# Altium integrated library DCMT_DRIVER_40V06A.IntLib: 25 symbols
Pins are listed as number, name and electrical type; pins without a type are passive.

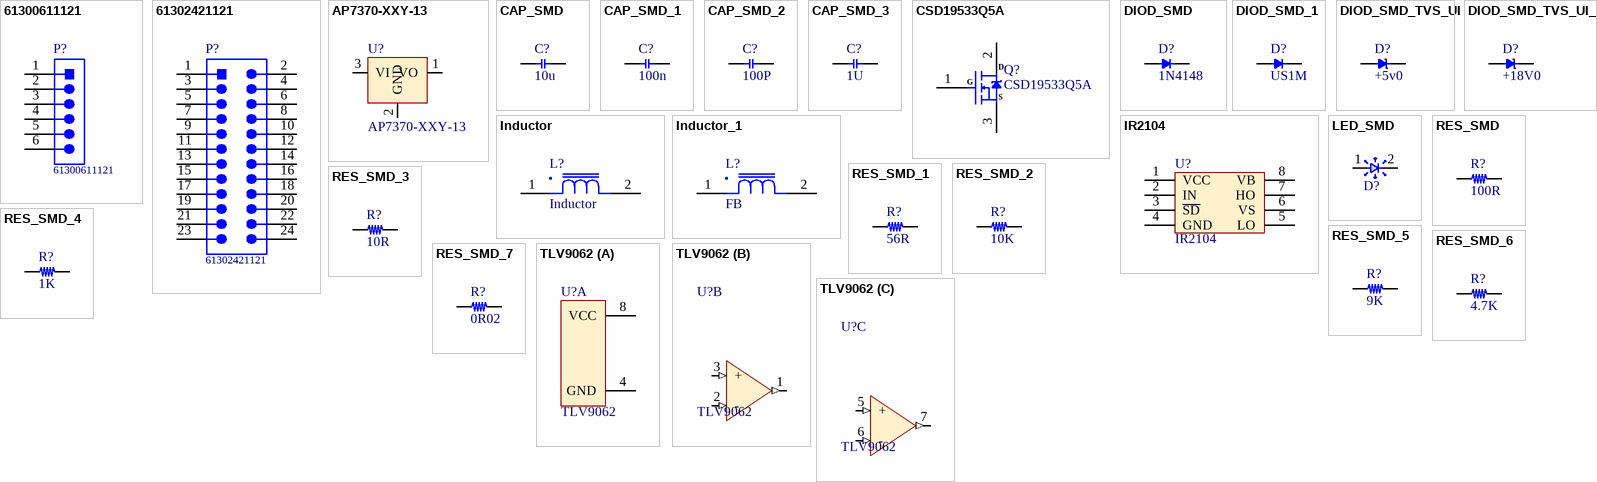
[diagram p0: symbols 61300611121 to TLV9062]

## 61300611121
designator P?
WR-PHD Pin Header, THT, pitch 2.54mm, Single Row, Vertical, 6p; Manufacturer: Wurth Elektronik; Pin Number: 6; Rated Current: 3A; Working Voltage: 250VAC; Withstanding Voltage: 500VAC; Contact Resistance: 20mOhm; ComponentLink1Description: Manufacturer; ComponentLink1URL: http://www.we-online.de; ComponentLink2Description: Datasheet; ComponentLink2URL: https://www.we-online.com/catalog/datasheet/61300611121.pdf; Manufacturer Part Number: 61300611121; Pitch: 2.54mm; Operating Temperature: -40 to +105degC; Mounting Technology: THT; Packaging: Bag; Gender: Pin Header; Row Number: Single; Orientation: Vertical
footprint 61300611121
pins: 1, 2, 3, 4, 5, 6

## 61302421121
designator P?
WR-PHD Pin Header, THT, pitch 2.54mm, Dual Row, Vertical, 24p; Manufacturer: Wurth Elektronik; Pin Number: 24; Rated Current: 3A; Working Voltage: 250VAC; Withstanding Voltage: 500VAC; Contact Resistance: 20mOhm; ComponentLink1Description: Manufacturer; ComponentLink1URL: http://www.we-online.de; ComponentLink2Description: Datasheet; ComponentLink2URL: https://www.we-online.com/catalog/datasheet/61302421121.pdf; Manufacturer Part Number: 61302421121; Pitch: 2.54mm; Operating Temperature: -40 to +105degC; Mounting Technology: THT; Packaging: Bag; Gender: Pin Header; Row Number: Dual; Orientation: Vertical
footprint 61302421121
pins: 1, 2, 3, 4, 5, 6, 7, 8, 9, 10, 11, 12, 13, 14, 15, 16, 17, 18, 19, 20, 21, 22, 23, 24

## AP7370-XXY-13
designator U?
footprint SOT89-U (U?)
pins: 1 VO, 2 GND, 3 VI

## CAP_SMD
designator C?, comment 10u
CAP_SMD
footprint C 0402 (C?)
footprint C 0603 (C?)
footprint C 0612 (C?)
footprint C 0805 (C?)
footprint C 1210 (C?)
footprint C 1808 (C?)
footprint C 2220 (C?)
footprint C 0508 (C?)
footprint C 0201 (C?)
footprint C 1218 (C?)
footprint C 2512 (C?)
footprint C 1812 (C?)
footprint C 2010 (C?)
footprint C 1206 (C?)
pins: 1, 2

## CAP_SMD_1
designator C?, comment 100n
CAP_SMD
footprint C 0402 (C?)
footprint C 0603 (C?)
footprint C 0612 (C?)
footprint C 0805 (C?)
footprint C 1210 (C?)
footprint C 1808 (C?)
footprint C 2220 (C?)
footprint C 0508 (C?)
footprint C 0201 (C?)
footprint C 1218 (C?)
footprint C 2512 (C?)
footprint C 1812 (C?)
footprint C 2010 (C?)
footprint C 1206 (C?)
pins: 1, 2

## CAP_SMD_2
designator C?, comment 100P
CAP_SMD
footprint C 0402 (C?)
footprint C 0603 (C?)
footprint C 0612 (C?)
footprint C 0805 (C?)
footprint C 1210 (C?)
footprint C 1808 (C?)
footprint C 2220 (C?)
footprint C 0508 (C?)
footprint C 0201 (C?)
footprint C 1218 (C?)
footprint C 2512 (C?)
footprint C 1812 (C?)
footprint C 2010 (C?)
footprint C 1206 (C?)
pins: 1, 2

## CAP_SMD_3
designator C?, comment 1U
CAP_SMD
footprint C 0402 (C?)
footprint C 0603 (C?)
footprint C 0612 (C?)
footprint C 0805 (C?)
footprint C 1210 (C?)
footprint C 1808 (C?)
footprint C 2220 (C?)
footprint C 0508 (C?)
footprint C 0201 (C?)
footprint C 1218 (C?)
footprint C 2512 (C?)
footprint C 1812 (C?)
footprint C 2010 (C?)
footprint C 1206 (C?)
pins: 1, 2

## CSD19533Q5A
designator Q?
footprint Q5A (Q?)
pins: 1 G, 2 D, 3 S

## DIOD_SMD
designator D?, comment 1N4148
DIOD_SMD
footprint DIOD_SMA (D?)
footprint DIOD_SMB (D?)
footprint DIOD_SMC (D?)
footprint D 0201 (D?)
footprint D 0402 (D?)
footprint D 0508 (D?)
footprint D 0805 (D?)
footprint D 1206 (D?)
footprint D 1210 (D?)
footprint D 1218 (D?)
footprint D 1808 (D?)
footprint D 1812 (D?)
footprint D 2010 (D?)
footprint D 2220 (D?)
footprint D 2512 (D?)
footprint D 0603 (D?)
footprint D 0612 (D?)
footprint MiniMELF (D?)
footprint D SOD-523 (D?)
footprint D SOD-323 (D?)
footprint D SOD-123 (D?)
pins: 1, 2

## DIOD_SMD_1
designator D?, comment US1M
DIOD_SMD
footprint DIOD_SMA (D?)
footprint DIOD_SMB (D?)
footprint DIOD_SMC (D?)
footprint D 0201 (D?)
footprint D 0402 (D?)
footprint D 0508 (D?)
footprint D 0805 (D?)
footprint D 1206 (D?)
footprint D 1210 (D?)
footprint D 1218 (D?)
footprint D 1808 (D?)
footprint D 1812 (D?)
footprint D 2010 (D?)
footprint D 2220 (D?)
footprint D 2512 (D?)
footprint D 0603 (D?)
footprint D 0612 (D?)
footprint MiniMELF (D?)
footprint D SOD-523 (D?)
footprint D SOD-323 (D?)
footprint D SOD-123 (D?)
pins: 1, 2

## DIOD_SMD_TVS_UI
designator D?, comment +5v0
TVS_UI
footprint DIOD_SMA (D?)
footprint DIOD_SMB (D?)
footprint DIOD_SMC (D?)
footprint D 0201 (D?)
footprint D 0402 (D?)
footprint D 0508 (D?)
footprint D 0805 (D?)
footprint D 1206 (D?)
footprint D 1210 (D?)
footprint D 1218 (D?)
footprint D 1808 (D?)
footprint D 1812 (D?)
footprint D 2010 (D?)
footprint D 2220 (D?)
footprint D 2512 (D?)
footprint D 0603 (D?)
footprint D 0612 (D?)
footprint MiniMELF (D?)
footprint D SOD-523 (D?)
footprint D SOD-323 (D?)
footprint D SOD-123 (D?)
pins: 1, 2

## DIOD_SMD_TVS_UI_1
designator D?, comment +18V0
TVS_UI
footprint DIOD_SMA (D?)
footprint DIOD_SMB (D?)
footprint DIOD_SMC (D?)
footprint D 0201 (D?)
footprint D 0402 (D?)
footprint D 0508 (D?)
footprint D 0805 (D?)
footprint D 1206 (D?)
footprint D 1210 (D?)
footprint D 1218 (D?)
footprint D 1808 (D?)
footprint D 1812 (D?)
footprint D 2010 (D?)
footprint D 2220 (D?)
footprint D 2512 (D?)
footprint D 0603 (D?)
footprint D 0612 (D?)
footprint MiniMELF (D?)
footprint D SOD-523 (D?)
footprint D SOD-323 (D?)
footprint D SOD-123 (D?)
pins: 1, 2

## Inductor
designator L?
footprint L_12*12_SMD (L?)
footprint L_5mm_DIP-2 (L?)
footprint L_3mm_DIP-2 (L?)
footprint L 0201 (L?)
footprint L 0402 (L?)
footprint L 0508 (L?)
footprint L 0805 (L?)
footprint L 0603 (L?)
footprint L 0612 (L?)
footprint L 1210 (L?)
footprint L 1218 (L?)
footprint L 1808 (L?)
footprint L 1812 (L?)
footprint L 2010 (L?)
footprint C 2220 (C?)
footprint L 2512 (L?)
footprint L 1206 (L?)
footprint L_10*10_SMD (L?)
footprint L 6530 (L?)
pins: 1, 2

## Inductor_1
designator L?, comment FB
Inductor
footprint L_12*12_SMD (L?)
footprint L_5mm_DIP-2 (L?)
footprint L_3mm_DIP-2 (L?)
footprint L 0201 (L?)
footprint L 0402 (L?)
footprint L 0508 (L?)
footprint L 0805 (L?)
footprint L 0603 (L?)
footprint L 0612 (L?)
footprint L 1210 (L?)
footprint L 1218 (L?)
footprint L 1808 (L?)
footprint L 1812 (L?)
footprint L 2010 (L?)
footprint C 2220 (C?)
footprint L 2512 (L?)
footprint L 1206 (L?)
footprint L_10*10_SMD (L?)
footprint L 6530 (L?)
pins: 1, 2

## IR2104
designator U?
footprint SOIC-8 (U?)
footprint PDIP-8 (U?)
pins: 1 VCC, 2 IN, 3 ~{SD}, 4 GND, 5 LO, 6 VS, 7 HO, 8 VB

## LED_SMD
designator D?  (value not drawn)
footprint D 0201 (D?)
footprint D 0402 (D?)
footprint D 0508 (D?)
footprint D 0603 (D?)
footprint D 0612 (D?)
footprint D 0805 (D?)
footprint D 1206 (D?)
footprint D 1210 (D?)
footprint D 1218 (D?)
footprint D 1808 (D?)
footprint D 1812 (D?)
footprint D 2010 (D?)
footprint D 2220 (D?)
footprint D 2512 (D?)
pins: 1, 2

## RES_SMD
designator R?, comment 100R
RES_SMD
footprint R 0201 (R?)
footprint R 0402 (R?)
footprint R 0603 (R?)
footprint R 0805 (R?)
footprint R 1218 (R?)
footprint R 2010 (R?)
footprint R 2512 (R?)
footprint R 0508 (R?)
footprint R 0612 (R?)
footprint R 1210 (R?)
footprint R 1808 (R?)
footprint R 1812 (R?)
footprint R 2220 (R?)
footprint R 1206 (R?)
pins: 1, 2

## RES_SMD_1
designator R?, comment 56R
RES_SMD
footprint R 0201 (R?)
footprint R 0402 (R?)
footprint R 0603 (R?)
footprint R 0805 (R?)
footprint R 1218 (R?)
footprint R 2010 (R?)
footprint R 2512 (R?)
footprint R 0508 (R?)
footprint R 0612 (R?)
footprint R 1210 (R?)
footprint R 1808 (R?)
footprint R 1812 (R?)
footprint R 2220 (R?)
footprint R 1206 (R?)
pins: 1, 2

## RES_SMD_2
designator R?, comment 10K
RES_SMD
footprint R 0201 (R?)
footprint R 0402 (R?)
footprint R 0603 (R?)
footprint R 0805 (R?)
footprint R 1218 (R?)
footprint R 2010 (R?)
footprint R 2512 (R?)
footprint R 0508 (R?)
footprint R 0612 (R?)
footprint R 1210 (R?)
footprint R 1808 (R?)
footprint R 1812 (R?)
footprint R 2220 (R?)
footprint R 1206 (R?)
pins: 1, 2

## RES_SMD_3
designator R?, comment 10R
RES_SMD
footprint R 0201 (R?)
footprint R 0402 (R?)
footprint R 0603 (R?)
footprint R 0805 (R?)
footprint R 1218 (R?)
footprint R 2010 (R?)
footprint R 2512 (R?)
footprint R 0508 (R?)
footprint R 0612 (R?)
footprint R 1210 (R?)
footprint R 1808 (R?)
footprint R 1812 (R?)
footprint R 2220 (R?)
footprint R 1206 (R?)
pins: 1, 2

## RES_SMD_4
designator R?, comment 1K
RES_SMD
footprint R 0201 (R?)
footprint R 0402 (R?)
footprint R 0603 (R?)
footprint R 0805 (R?)
footprint R 1218 (R?)
footprint R 2010 (R?)
footprint R 2512 (R?)
footprint R 0508 (R?)
footprint R 0612 (R?)
footprint R 1210 (R?)
footprint R 1808 (R?)
footprint R 1812 (R?)
footprint R 2220 (R?)
footprint R 1206 (R?)
pins: 1, 2

## RES_SMD_5
designator R?, comment 9K
RES_SMD
footprint R 0201 (R?)
footprint R 0402 (R?)
footprint R 0603 (R?)
footprint R 0805 (R?)
footprint R 1218 (R?)
footprint R 2010 (R?)
footprint R 2512 (R?)
footprint R 0508 (R?)
footprint R 0612 (R?)
footprint R 1210 (R?)
footprint R 1808 (R?)
footprint R 1812 (R?)
footprint R 2220 (R?)
footprint R 1206 (R?)
pins: 1, 2

## RES_SMD_6
designator R?, comment 4.7K
RES_SMD
footprint R 0201 (R?)
footprint R 0402 (R?)
footprint R 0603 (R?)
footprint R 0805 (R?)
footprint R 1218 (R?)
footprint R 2010 (R?)
footprint R 2512 (R?)
footprint R 0508 (R?)
footprint R 0612 (R?)
footprint R 1210 (R?)
footprint R 1808 (R?)
footprint R 1812 (R?)
footprint R 2220 (R?)
footprint R 1206 (R?)
pins: 1, 2

## RES_SMD_7
designator R?, comment 0R02
RES_SMD
footprint R 0201 (R?)
footprint R 0402 (R?)
footprint R 0603 (R?)
footprint R 0805 (R?)
footprint R 1218 (R?)
footprint R 2010 (R?)
footprint R 2512 (R?)
footprint R 0508 (R?)
footprint R 0612 (R?)
footprint R 1210 (R?)
footprint R 1808 (R?)
footprint R 1812 (R?)
footprint R 2220 (R?)
footprint R 1206 (R?)
pins: 1, 2

## TLV9062
designator U?
footprint SOIC-8 (U?)
footprint SOT23-8 (U?)
part A pins: 4 GND, 8 VCC
part B pins: 1 OUT (out), 2 - (in), 3 + (in)
part C pins: 5 + (in), 6 - (in), 7 OUT (out)